# Altium footprint library Molex_30pin.PcbLib: 1 footprints
Each footprint in its own frame and in the unit in brackets; x right, y up, seen from the top. Pads: shape width x height; smd on the part's side, far side on the other; paste and mask are expansions set on the pad; w line width, h text height; cw(c..) or ccw(c..) is an arc to the next point about the centre after c.
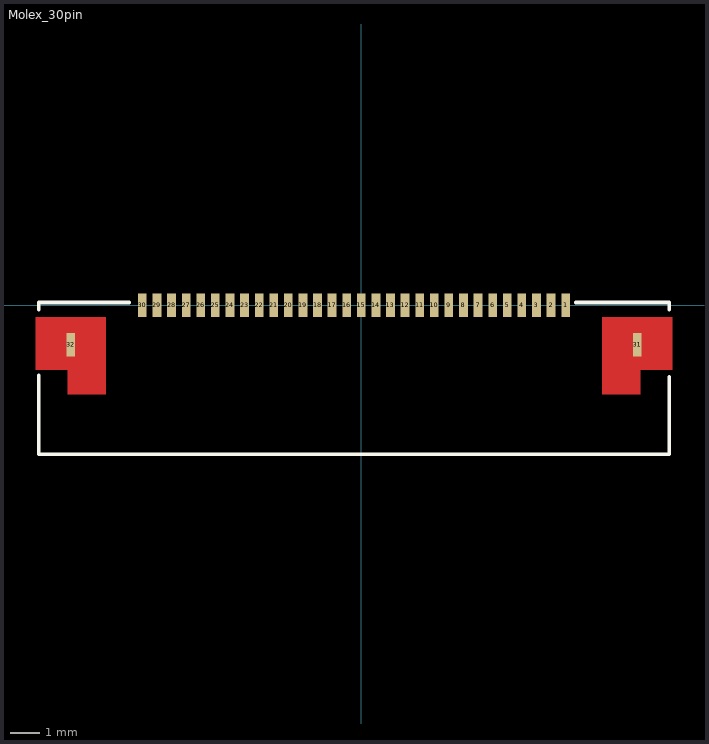
[diagram p0: the footprint, top view; thin cyan lines are the x and y axes]

## Molex_30pin [mm] "524353071"
height 1.9
pads (32):
  rect 0.3x0.8 smd: 1(7,0) 2(6.5,0) 3(6,0) 4(5.5,0) 5(5,0) 6(4.5,0) 7(4,0) 8(3.5,0) 9(3,0) 10(2.5,0) 11(2,0) 12(1.5,0) 13(1,0) 14(0.5,0) 15(0,0) 16(-0.5,0) 17(-1,0) 18(-1.5,0) 19(-2,0) 20(-2.5,0) 21(-3,0) 22(-3.5,0) 23(-4,0) 24(-4.5,0) 25(-5,0) 26(-5.5,0) 27(-6,0) 28(-6.5,0) 29(-7,0) 30(-7.5,0) 31(9.45,-1.35) 32(-9.95,-1.35)
Top Layer:
  region: 10.65,-0.4 8.25,-0.4 8.25,-3.05 9.55,-3.05 9.55,-2.2 10.65,-2.2
  region: -11.15,-0.4 -8.75,-0.4 -8.75,-3.05 -10.05,-3.05 -10.05,-2.2 -11.15,-2.2
Top Overlay:
  lines w0.127: -11.05,-2.4 -11.05,-5.1 10.55,-5.1 10.55,-2.45 ; -11.05,-0.15 -11.05,0.1 -7.95,0.1 ; 7.35,0.1 10.55,0.1 10.55,-0.15
Mechanical 15:
  text ".Designator" at 4.3,-2.05 h1.5
3D body "524353071.stp": height 2, standoff -0.05, extent -11.05,-5.1 10.55,0.1